# Altium schematic symbol library Schlib.SchLib: 138 symbols (part 3 of 4)
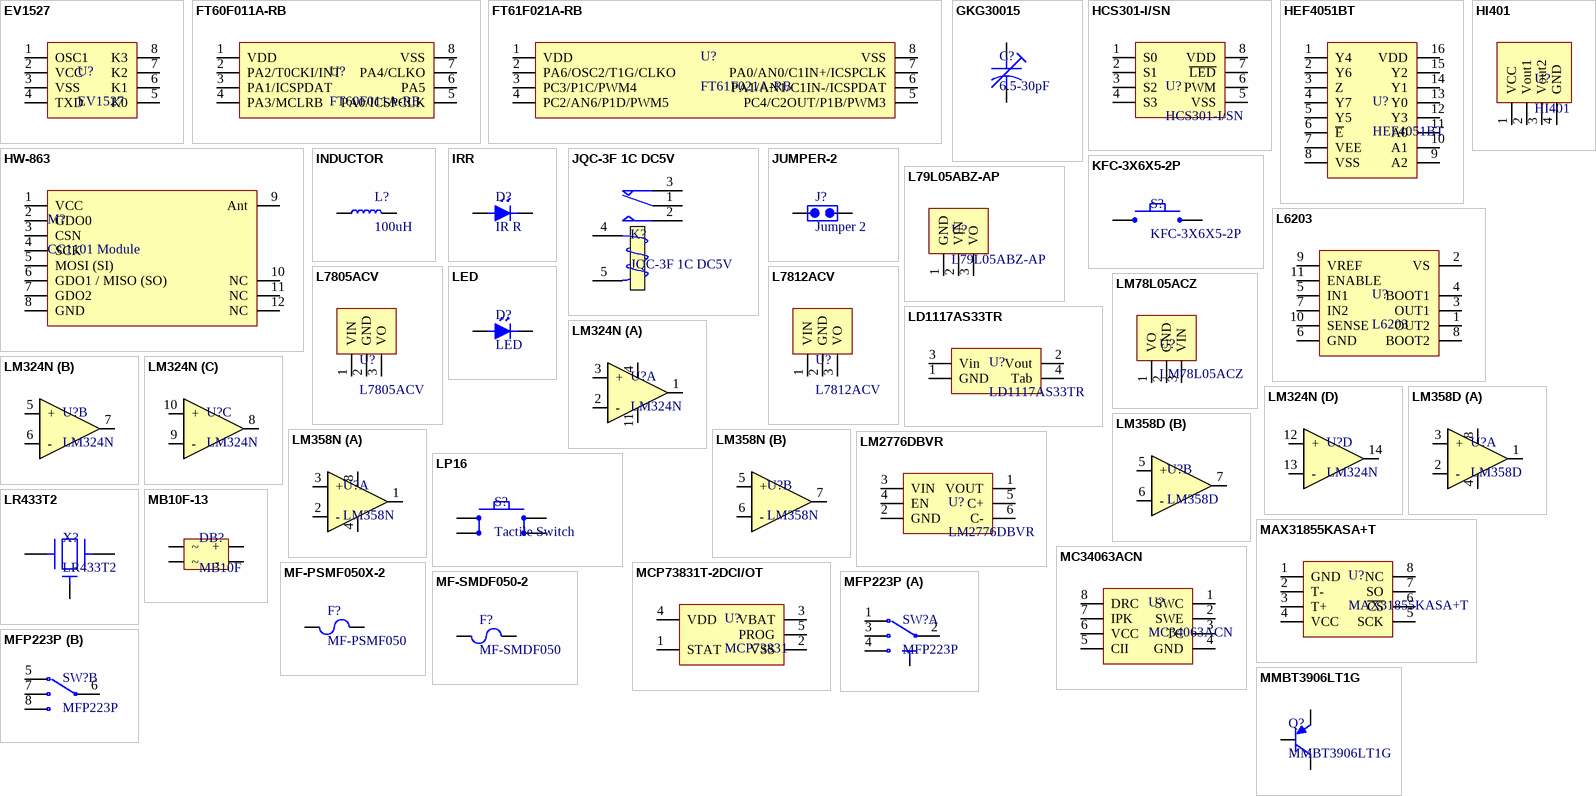
[diagram p5: symbols EV1527 to MMBT3906LT1G]

## MMBT3906LT1G
designator Q?
Transistor: PNP; bipolar; -40V; -0.2A; 300mW; -55+150 deg.C; SMD; SOT23;Code 2A; Manufacturer: onsemi; Manufacturer Lifecycle Status: ACTIVE; Collector Emitter Saturation Voltage: 400mV; Collector Emitter Voltage (VCEO): 40V; Current Rating: -200mA; Element Configuration: Single; Emitter Base Voltage (VEBO): -5V; Frequency: 250MHz; hFE Min: 30; Max Collector Current: 200mA; Max Junction Temperature (Tj): 150°C; Number of Elements: 1; Power Dissipation: 225mW; Supplier: Future Electronics; Supplier Part Number: 8052361; Manufacturer Part Number: MMBT3906LT1G; RoHS: Compliant; Category: BJTs; Stock: 4785000; Pricing: 3000=0/0123, 9000=0/0121, 30000=0/0118, 60000=0/0116, 120000=0/0113 (USD); Case/Package: SOT-23; China RoHS: Compliant; Collector Base Voltage (VCBO): -40V; Collector Emitter Breakdown Voltage: -40V; Contact Plating: Tin; Gain Bandwidth Product: 250MHz; Height: 1.11mm; Lead Free: Lead Free; Length: 2.9mm; Lifecycle Status: Production; Max Breakdown Voltage: 40V; Clock Frequency: 250MHz; Max Operating Temperature: 150°C; Max Power Dissipation: 300mW; Min Operating Temperature: -65°C; Pins: 3; Number of Terminals: 3; Packaging: Tape and Reel; Polarity: PNP; Radiation Hardening: No; REACH SVHC: Yes; Schedule B: 8541210080, 8541210080|8541210080|8541210080|8541210080|8541210080; Transition Frequency: 250MHz; Voltage Rating (DC): -40V; Width: 1.3mm; ComponentLink1URL: https://datasheet.octopart.com:443/MMBT3906LT1G-ON-Semiconductor-datasheet-8327872.pdf?src-supplier=onsemi; ComponentLink1Description: https://datasheet.octopart.com:443/MMBT3906LT1G-ON-Semiconductor-datasheet-8327872.pdf?src-supplier=onsemi; ComponentLink2URL: https://datasheet.octopart.com:443/MMBT3906LT1G-ON-Semiconductor-datasheet-539488.pdf?src-supplier=onsemi; ComponentLink2Description: https://datasheet.octopart.com:443/MMBT3906LT1G-ON-Semiconductor-datasheet-539488.pdf?src-supplier=onsemi; ComponentLink3URL: https://datasheet.octopart.com:443/MMBT3906LT1G-ON-Semiconductor-datasheet-138897290.pdf?src-supplier=onsemi; ComponentLink3Description: https://datasheet.octopart.com:443/MMBT3906LT1G-ON-Semiconductor-datasheet-138897290.pdf?src-supplier=onsemi; ComponentLink4URL: https://datasheet.octopart.com:443/MMBT3906LT1G-onsemi-datasheet-175423508.pdf?src-supplier=IHS; ComponentLink4Description: https://datasheet.octopart.com:443/MMBT3906LT1G-onsemi-datasheet-175423508.pdf?src-supplier=IHS; ComponentLink5URL: https://sigma.octopart.com:443/138897241/technical_drawing/ON-Semiconductor-MMBT3906LT1G.pdf?src-supplier=Upverter; ComponentLink5Description: https://sigma.octopart.com:443/138897241/technical_drawing/ON-Semiconductor-MMBT3906LT1G.pdf?src-supplier=Upverter; ComponentLink6URL: https://datasheet.octopart.com:443/MMBT3906LT1G-ON-Semiconductor-datasheet-37114213.pdf?src-supplier=RS+(Formerly+Allied+Electronics); ComponentLink6Description: https://datasheet.octopart.com:443/MMBT3906LT1G-ON-Semiconductor-datasheet-37114213.pdf?src-supplier=RS+(Formerly+Allied+Electronics); ComponentLink7URL: https://datasheet.octopart.com:443/MMBT3906LT1G-ON-Semiconductor-datasheet-11546804.pdf?src-supplier=Newark; ComponentLink7Description: https://datasheet.octopart.com:443/MMBT3906LT1G-ON-Semiconductor-datasheet-11546804.pdf?src-supplier=Newark; ComponentLink8URL: https://datasheet.octopart.com:443/MMBT3906LT1G-onsemi-datasheet-181959170.pdf?src-supplier=Newark; ComponentLink8Description: https://datasheet.octopart.com:443/MMBT3906LT1G-onsemi-datasheet-181959170.pdf?src-supplier=Newark; ComponentLink9URL: https://datasheet.octopart.com:443/MMBT3906LT1G-ON-Semiconductor-datasheet-14065217.pdf?src-supplier=iiiC; ComponentLink9Description: https://datasheet.octopart.com:443/MMBT3906LT1G-ON-Semiconductor-datasheet-14065217.pdf?src-supplier=iiiC; ComponentLink10URL: http://sigma.octopart.com:80/150618441/rohs_statement/ON-Semiconductor-MMBT3906LT1G.pdf?src-supplier=Compliance+Statements; ComponentLink10Description: http://sigma.octopart.com:80/150618441/rohs_statement/ON-Semiconductor-MMBT3906LT1G.pdf?src-supplier=Compliance+Statements; ComponentLink11URL: http://sigma.octopart.com:80/reach_statement/ON-Semiconductor-company-79.pdf?src-supplier=Compliance+Statements; ComponentLink11Description: http://sigma.octopart.com:80/reach_statement/ON-Semiconductor-company-79.pdf?src-supplier=Compliance+Statements; ComponentLink12URL: https://octopart.com:443/opatz8j6/c1?t=9sZx5J1Z-CKt1acIFvbxwnPOfg2Ox1ThGsk5u_ey9klsd4kIY_YRtngdpTUgHhn1pW7VsXVWW69Sw7HMwhsWnnweoFVJiE2XtkL4qFc8EmcrHL8FnuEaZITAA2BVwuye8rlv93o6QoBnrxCnDqBwoJSQLZ7qmkUWbwzZL1o6NcW86JGkywe1WBKx4i8oYYl6fWP6UJe0luWDwoUFZ5aEpytWvdy15qGS5MPbd-v5mWL7syfpciumexnUjefqPdtET68dcoFzHd7o-X17DsKWIKOzlWoEX1N8sQ_gkn8M4_GdX4eK4BaTWebEcksB-cGbWTlBKm0ovGpmSXP-3wSY9RoNaC-NjL5hUsizKSmw&src-supplier=Compliance+Statements; ComponentLink12Description: https://octopart.com:443/opatz8j6/c1?t=9sZx5J1Z-CKt1acIFvbxwnPOfg2Ox1ThGsk5u_ey9klsd4kIY_YRtngdpTUgHhn1pW7VsXVWW69Sw7HMwhsWnnweoFVJiE2XtkL4qFc8EmcrHL8FnuEaZITAA2BVwuye8rlv93o6QoBnrxCnDqBwoJSQLZ7qmkUWbwzZL1o6NcW86JGkywe1WBKx4i8oYYl6fWP6UJe0luWDwoUFZ5aEpytWvdy15qGS5MPbd-v5mWL7syfpciumexnUjefqPdtET68dcoFzHd7o-X17DsKWIKOzlWoEX1N8sQ_gkn8M4_GdX4eK4BaTWebEcksB-cGbWTlBKm0ovGpmSXP-3wSY9RoNaC-NjL5hUsizKSmw&src-supplier=Compliance+Statements; ComponentLink13URL: https://octopart.com:443/opatz8j6/c1?t=GA0nTvQ7vxStTNIUtkSWbw7XWK-Mpf3oWN0e4r5Gu_q5LpJd643bQeZmPkgPRwvKtShqrBLuJiAtGA0MkHCg0iOO_WYcl_xbcwBqU1bQb0lvXexGzyXRH23qH_MQ5dKNkvqU-Gn8y9RRpAdHGn4Eg_WSyAPYm7DUsIMBrm7SRPFY-f0RRQP4U88wsrb3LTv7fPMpL3NiEwyRxkLVG4u0uW8oCoTQq4D3crnjIjmlng4hdwwueZUiwYEwf-joQKRwrmYf5NkpPGeMmt7uaSqBY3_8dxI35T2xesQrsayqgFWMMrS6eBw6IWFkd9gFe00eLOkhwG9vcC34nM7lUgwiqCpZZ1wR8zkpqajjdwja7Q&src-supplier=Compliance+Statements; ComponentLink13Description: https://octopart.com:443/opatz8j6/c1?t=GA0nTvQ7vxStTNIUtkSWbw7XWK-Mpf3oWN0e4r5Gu_q5LpJd643bQeZmPkgPRwvKtShqrBLuJiAtGA0MkHCg0iOO_WYcl_xbcwBqU1bQb0lvXexGzyXRH23qH_MQ5dKNkvqU-Gn8y9RRpAdHGn4Eg_WSyAPYm7DUsIMBrm7SRPFY-f0RRQP4U88wsrb3LTv7fPMpL3NiEwyRxkLVG4u0uW8oCoTQq4D3crnjIjmlng4hdwwueZUiwYEwf-joQKRwrmYf5NkpPGeMmt7uaSqBY3_8dxI35T2xesQrsayqgFWMMrS6eBw6IWFkd9gFe00eLOkhwG9vcC34nM7lUgwiqCpZZ1wR8zkpqajjdwja7Q&src-supplier=Compliance+Statements; ComponentLink14URL: https://octopart.com:443/opatz8j6/c1?t=sB9k2lPQEe2PDVP0-2PDxDAGSHvdI0xHl-BGdaJRYUfgqzTGWTL7dqAw6saP2XegEO4FIcBeIoqAvTlo8KPiG9x2qAhRzQTA9bAA7iJrQU1c7eL_FnHayRa2otw4hEqpJPphi7sM-yTD6GgWoRS-efhsHY-rwujiF4GadOBKLlVxEeNROAOLFYlw0oMOc5AZAW_Z0tKLuXjrCsD4R_RPK5_j87n7vgxugC2rzFe2O4N72g38C5dBLcEfkBcqiFc_7A1DiEw9qc8FJ4UfRYEiHwZlKjD-tNq8eo_oGy73AD2bGZ0pFXPK7GcLVN9cOkQZa43ouWD3JlCIQGPBAIMTfVBmTbTW6XLOfjca1ldA&src-supplier=Compliance+Statements; ComponentLink14Description: https://octopart.com:443/opatz8j6/c1?t=sB9k2lPQEe2PDVP0-2PDxDAGSHvdI0xHl-BGdaJRYUfgqzTGWTL7dqAw6saP2XegEO4FIcBeIoqAvTlo8KPiG9x2qAhRzQTA9bAA7iJrQU1c7eL_FnHayRa2otw4hEqpJPphi7sM-yTD6GgWoRS-efhsHY-rwujiF4GadOBKLlVxEeNROAOLFYlw0oMOc5AZAW_Z0tKLuXjrCsD4R_RPK5_j87n7vgxugC2rzFe2O4N72g38C5dBLcEfkBcqiFc_7A1DiEw9qc8FJ4UfRYEiHwZlKjD-tNq8eo_oGy73AD2bGZ0pFXPK7GcLVN9cOkQZa43ouWD3JlCIQGPBAIMTfVBmTbTW6XLOfjca1ldA&src-supplier=Compliance+Statements
footprint SOT-23-3
pins: 1 B, 2 E, 3 C

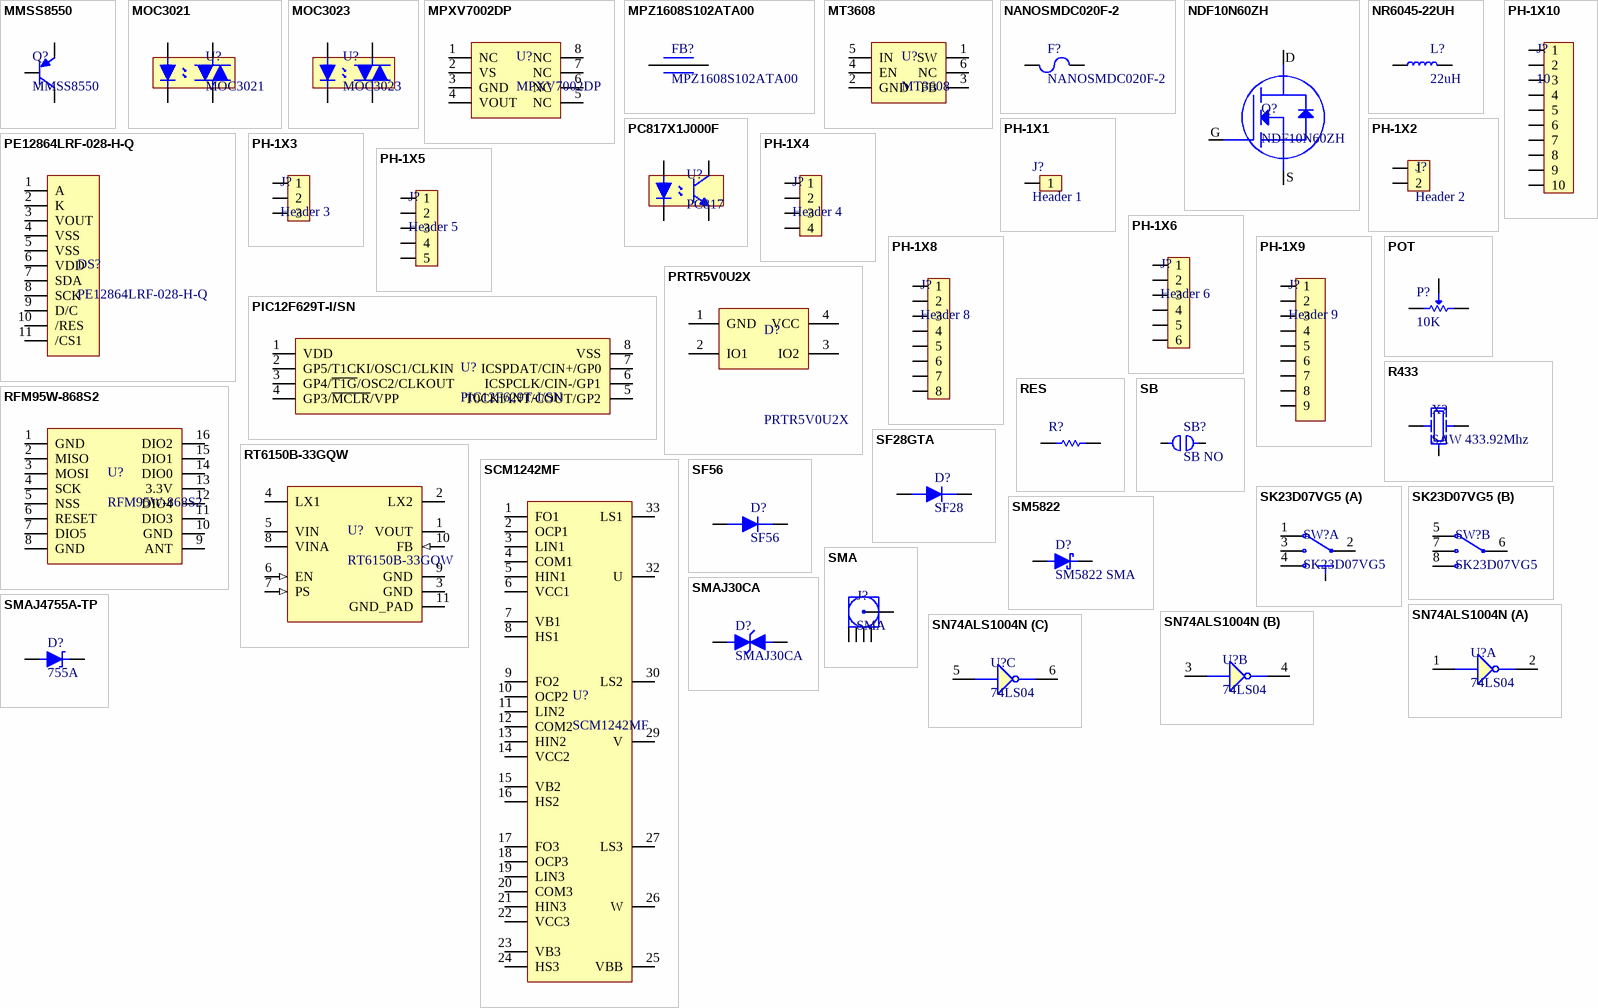
[diagram p2: symbols MMSS8550 to SN74ALS1004N]

## MMSS8550
designator Q?
PNP 25V 1.5A BJT Y2
footprint SOT-23-3
pins: 1 B, 2 E, 3 C

## MOC3021
designator U?
OPTOISOLATOR 5KV TRIAC 6DIP; Manufacturer: Vishay Lite-On; Number of Channels: 1; Forward Voltage: 1.15V; Hold Current: 250uA; Forward Current: 50mA; Max Input Voltage: 1.5V; Reverse Breakdown Voltage: 6V; Power Dissipation: 330mW; Output Voltage: 400V; Turn-On Delay Time: 20us; Max Output Current: 100mA; Approvals: UL,CSA,VDE,TUV,CQC; Supplier 1: Mouser; Manufacturer Part Number: MOC3021; RoHS: Yes; Category: Optocouplers; Stock 1: 9689; Pricing 1: 1=0/54000, 10=0/35800, 50=0/35800, 100=0/23600, 1000=0/23600, 1040=0/18200, 2535=0/16400, 10000=0/16400, 10010=0/14800, 25025=0/14600, 50050=0/14000 (USD); Mount: Through Hole; Case/Package: DIP; Number of Pins: 6; Min Operating Temperature: -40°C; Max Operating Temperature: 100°C; Packaging: Rail/Tube; Nominal Input Voltage: 1.15V; Isolation Voltage: 5kV; Number of Elements: 1; Max Input Current: 50mA; Max Power Dissipation: 330mW; Number of Circuits: 1; Series: -; Radiation Hardening: No; RoHS Compliant: Yes; ComponentLink1URL: https://datasheet.ciiva.com/11771/0900766b80de6ded-11771920.pdf?src-supplier=RSComponents; ComponentLink1Description: https://datasheet.ciiva.com/11771/0900766b80de6ded-11771920.pdf?src-supplier=RSComponents; ComponentLink2URL: https://datasheet.ciiva.com/25779/0900766b80de6ded-25779931.pdf?src-supplier=Allied+Electronics; ComponentLink2Description: https://datasheet.ciiva.com/25779/0900766b80de6ded-25779931.pdf?src-supplier=Allied+Electronics; ComponentLink3URL: https://datasheet.ciiva.com/2093/s-110-moc3020thrumoc3023series-2093012.pdf?src-supplier=Digi-Key; ComponentLink3Description: https://datasheet.ciiva.com/2093/s-110-moc3020thrumoc3023series-2093012.pdf?src-supplier=Digi-Key; Supplier Part Number 1: 859-MOC3021
footprint DIP-6 (DIP, pitch 2.54mm, 300mil Width)
pins: 1, 2, 4, 6

## MOC3023
designator U?
OPTOISOLATOR 5KV TRIAC 6DIP; Manufacturer: Vishay Lite-On; Number of Channels: 1; Forward Current: 50mA; Forward Voltage: 1.15V; Reverse Breakdown Voltage: 6V; Max Input Voltage: 1.5V; Power Dissipation: 330mW; Hold Current: 250uA; Output Voltage: 400V; Turn-On Delay Time: 20us; Max Output Current: 100mA; Approvals: UL,CSA,VDE,TUV,CQC; Supplier 1: Mouser; Manufacturer Part Number: MOC3023; RoHS: Yes; Category: Optocouplers; Stock 1: 4628; Pricing 1: 1=0/59000, 10=0/39100, 50=0/39100, 100=0/25700, 1000=0/25700, 10000=0/17900 (USD); Mount: Through Hole; Case/Package: DIP; Number of Pins: 6; Min Operating Temperature: -40°C; Max Operating Temperature: 100°C; Packaging: Rail/Tube; Nominal Input Voltage: 1.15V; Isolation Voltage: 5kV; Number of Elements: 1; Max Power Dissipation: 330mW; Max Input Current: 50mA; Number of Circuits: 1; Series: -; Isolation Voltage-Max: 5kV; Max Output Voltage: 400V; Radiation Hardening: No; Lead Free: Lead Free; RoHS Compliant: Yes; ComponentLink1URL: https://datasheet.ciiva.com/25620/0900766b80de6ded-25620601.pdf?src-supplier=RSComponents; ComponentLink1Description: https://datasheet.ciiva.com/25620/0900766b80de6ded-25620601.pdf?src-supplier=RSComponents; ComponentLink2URL: https://datasheet.ciiva.com/2093/s-110-moc3020thrumoc3023series-2093014.pdf?src-supplier=Digi-Key; ComponentLink2Description: https://datasheet.ciiva.com/2093/s-110-moc3020thrumoc3023series-2093014.pdf?src-supplier=Digi-Key; Supplier Part Number 1: 859-MOC3023
footprint DIP-6 (DIP, pitch 2.54mm, 300mil Width)
pins: 1, 2, 4, 6

## MPXV7002DP
designator U?
NXP,MPXV7002DP             Pressure Sensor, Differential, 1 V/kPa, -2 kPa, 2 kPa, 4.75 V, 5.25 V; Manufacturer: NXP Freescale; Output Voltage: 4.5V; Operating Supply Voltage: 5V; Nominal Supply Current: 10mA; Min Supply Voltage: 4.75V; Max Supply Voltage: 5.25V; Port Style: Barbed; Operating Pressure: 0.29PSI; Accuracy: 2.5%; Max Pressure: 10.88PSI; Output Type: Analog Voltage,Analog; Response Time: 1ms; Supplier 1: Digi-Key; Manufacturer Part Number: MPXV7002DP; RoHS: Yes; Category: Pressure Sensors; Pricing 1: 1=20.87000 (USD); Mount: Surface Mount; Case/Package: SMD/SMT; Number of Pins: 8; Weight: 0.07841oz; Min Operating Temperature: 10°C; Max Operating Temperature: 60°C; Package Quantity: 125; Packaging: Tray; Termination: PCB; Pressure Type: Differential; Max Supply Current: 10mA; Radiation Hardening: No; REACH SVHC: No SVHC; Lead Free: Lead Free; Halogen Free: Not Halogen Free; RoHS Compliant: Yes; ComponentLink1URL: https://datasheet.ciiva.com/15099/getdatasheetpartid-189560-15099192.pdf?src-supplier=Verical; ComponentLink1Description: https://datasheet.ciiva.com/15099/getdatasheetpartid-189560-15099192.pdf?src-supplier=Verical; ComponentLink2URL: https://datasheet.ciiva.com/27051/1094061-27051403.pdf?src-supplier=Jameco; ComponentLink2Description: https://datasheet.ciiva.com/27051/1094061-27051403.pdf?src-supplier=Jameco; ComponentLink3URL: https://datasheet.ciiva.com/1167/1718766-1167544.pdf?src-supplier=Element14; ComponentLink3Description: https://datasheet.ciiva.com/1167/1718766-1167544.pdf?src-supplier=Element14; ComponentLink4URL: https://datasheet.ciiva.com/5297/mpxv7002-5297645.pdf?src-supplier=Mouser; ComponentLink4Description: https://datasheet.ciiva.com/5297/mpxv7002-5297645.pdf?src-supplier=Mouser; ComponentLink5URL: https://datasheet.ciiva.com/3272/mpxv7002-3272584.pdf?src-supplier=Avnet; ComponentLink5Description: https://datasheet.ciiva.com/3272/mpxv7002-3272584.pdf?src-supplier=Avnet; ComponentLink6URL: https://datasheet.ciiva.com/16354/mpxv7002-16354119.pdf?src-supplier=Future+Electronics; ComponentLink6Description: https://datasheet.ciiva.com/16354/mpxv7002-16354119.pdf?src-supplier=Future+Electronics; ComponentLink7URL: https://datasheet.ciiva.com/26022/mpxv7002-26022710.pdf?src-supplier=Avnet+Europe; ComponentLink7Description: https://datasheet.ciiva.com/26022/mpxv7002-26022710.pdf?src-supplier=Avnet+Europe; ComponentLink8URL: https://datasheet.ciiva.com/2825/mpxv7002-2825384.pdf?src-supplier=Digi-Key; ComponentLink8Description: https://datasheet.ciiva.com/2825/mpxv7002-2825384.pdf?src-supplier=Digi-Key; Supplier Part Number 1: MPXV7002DP-ND
footprint MPXV7002DP
pins: 1 NC, 2 VS, 3 GND, 4 VOUT, 5 NC, 6 NC, 7 NC, 8 NC

## MPZ1608S102ATA00
designator FB?
FERRITE BEAD 1 KOHM 0603 1LN; Manufacturer: TDK; Tolerance: 25%; Impedance: 1kR; DC Resistance (DCR): 300mR; Max DC Current: 800mA; Supplier 1: Digi-Key; Manufacturer Part Number: MPZ1608S102ATA00; RoHS: Yes; Category: Inductors; Pricing 1: 1=0/10000, 10=0/07900, 25=0/07160, 50=0/06440, 100=0/04720, 250=0/03432, 500=0/03146, 1000=0/02717 (USD); Mount: Surface Mount; Case/Package: 0603; Core Material: Ferrite; Case Code (Metric): 1608; Case Code (Imperial): 0603; Package Quantity: 4000; Packaging: Tape and Reel; Current Rating: 800mA; Length: 0.063inch; Width: 0.031inch; Height: 0.037inch; RoHS Compliant: Yes; ComponentLink1URL: https://datasheet.ciiva.com/48682/beads-commercial-power-mpz-en-48682493.pdf?src-supplier=Avnet; ComponentLink1Description: https://datasheet.ciiva.com/48682/beads-commercial-power-mpz-en-48682493.pdf?src-supplier=Avnet; ComponentLink2URL: https://datasheet.ciiva.com/46634/beads-commercial-power-mpz-en-46634470.pdf?src-supplier=Digi-Key; ComponentLink2Description: https://datasheet.ciiva.com/46634/beads-commercial-power-mpz-en-46634470.pdf?src-supplier=Digi-Key; Supplier Part Number 1: 445-8694-1-ND
footprint MPZ1608_0.8
pins: 1, 2

## MT3608
designator U?
Switching Voltage Step Up Converter Regulators
footprint SOT-23-6-(SC-74)
pins: 1 SW, 2 GND, 3 FB, 4 EN, 5 IN, 6 NC

## NANOSMDC020F-2
designator F?
PTC Resettable Fuse 0.2A(hold) 0.42A(trip) 24VDC 100A 0.6W 0.1s 0.65Ohm SMD Solder Pad 1206 T/R; Manufacturer: Littelfuse; Operating Supply Voltage: 24V; Power Dissipation: 600mW; Supplier 1: Digikey; Manufacturer Part Number: NANOSMDC020F-2; RoHS: Yes; Category: PTC Resettable Fuses; Stock 1: 27852; Pricing 1: 1=0/44, 5=0/432, 10=0/418, 50=0/3516, 100=0/292, 250=0/26544, 500=0/22562, 1000=0/19907 (USD); Case/Package: 340Case; Current Rating: 100A; Voltage Rating: 24V; Width: 3.4mm; Height: 820um; ComponentLink1URL: http://www.farnell.com/datasheets/2282569.pdf?src-supplier=Farnell; ComponentLink1Description: http://www.farnell.com/datasheets/2282569.pdf?src-supplier=Farnell; ComponentLink2URL: https://datasheet.octopart.com/NANOSMDC020F-2-Littelfuse-datasheet-67462058.pdf?src-supplier=Future+Electronics; ComponentLink2Description: https://datasheet.octopart.com/NANOSMDC020F-2-Littelfuse-datasheet-67462058.pdf?src-supplier=Future+Electronics; ComponentLink3URL: https://www.littelfuse.com/~/media/electronics/product_specifications/resettable_ptcs/littelfuse_ptc_nanosmdc020f_2_product_specification.pdf.pdf?src-supplier=Digikey; ComponentLink3Description: https://www.littelfuse.com/~/media/electronics/product_specifications/resettable_ptcs/littelfuse_ptc_nanosmdc020f_2_product_specification.pdf.pdf?src-supplier=Digikey; ComponentLink4URL: https://www.littelfuse.com/~/media/electronics/datasheets/resettable_ptcs/littelfuse_ptc_nanosmd_catalog_datasheet.pdf.pdf?src-supplier=Digikey; ComponentLink4Description: https://www.littelfuse.com/~/media/electronics/datasheets/resettable_ptcs/littelfuse_ptc_nanosmd_catalog_datasheet.pdf.pdf?src-supplier=Digikey; ComponentLink5URL: http://www.littelfuse.com/~/media/electronics/datasheets/resettable_ptcs/littelfuse_ptc_nanosmd_catalog_datasheet.pdf.pdf?src-supplier=Digikey; ComponentLink5Description: http://www.littelfuse.com/~/media/electronics/datasheets/resettable_ptcs/littelfuse_ptc_nanosmd_catalog_datasheet.pdf.pdf?src-supplier=Digikey; ComponentLink6URL: http://www.farnell.com/datasheets/2282569.pdf?src-supplier=Newark; ComponentLink6Description: http://www.farnell.com/datasheets/2282569.pdf?src-supplier=Newark; ComponentLink7URL: http://www.farnell.com/datasheets/2282569.pdf?src-supplier=Element14; ComponentLink7Description: http://www.farnell.com/datasheets/2282569.pdf?src-supplier=Element14; ComponentLink8URL: http://www.farnell.com/cad/1650134.pdf?src-supplier=Element14; ComponentLink8Description: http://www.farnell.com/cad/1650134.pdf?src-supplier=Element14; ComponentLink9URL: http://www.farnell.com/datasheets/1468628.pdf?src-supplier=Element14; ComponentLink9Description: http://www.farnell.com/datasheets/1468628.pdf?src-supplier=Element14; Supplier Part Number 1: NANOSMDC020F-2CT-ND
footprint R-1206
pins: 1, 2

## NDF10N60ZH
designator Q?
NDF10N60ZH N-channel MOSFET Transistor; 10 A; 600 V; 3-Pin TO-220FP; Manufacturer: ON Semiconductor; Rise Time: 31ns; Rds On Max: 750mR; Input Capacitance: 1.645nF; Drain to Source Voltage (Vdss): 600V; Continuous Drain Current (ID): 10A; Max Power Dissipation: 39W; Fall Time: 23ns; Gate to Source Voltage (Vgs): 30V; Drain to Source Resistance: 650mR; Turn-On Delay Time: 15ns; Turn-Off Delay Time: 40ns; Number of Elements: 1; Element Configuration: Single; Supplier 1: Farnell; Manufacturer Part Number: NDF10N60ZH; RoHS: Yes; Category: MOSFETs; Pricing 1: 5=0/87800, 25=0/79700, 100=0/62600, 250=0/58500, 500=0/54200, 1000=0/43500, 5000=0/42400 (GBP); Case/Package: TO-220-3; Number of Pins: 3; Min Operating Temperature: -55°C; Max Operating Temperature: 150°C; Package Quantity: 50; Packaging: Rail/Tube; Drain to Source Breakdown Voltage: 600V; Power Dissipation: 39W; Polarity: N-CHANNEL; Series: -; Length: 10.63mm; Width: 4.9mm; Height: 16.12mm; Radiation Hardening: No; Lead Free: Lead Free; RoHS Compliant: Yes; ComponentLink1URL: https://datasheet.ciiva.com/6374/ndf10n60z-d-6374054.pdf?src-supplier=Digi-Key; ComponentLink1Description: https://datasheet.ciiva.com/6374/ndf10n60z-d-6374054.pdf?src-supplier=Digi-Key; Supplier Part Number 1: 2724446
footprint TO-220
pins: 1 G, 2 D, 3 S

## NR6045-22UH
designator L?, comment 22uH
Low Profile, High Current IHLP Inductor, 2.3A, 22uH, SMD(6x6x3), (HPC6045NV-220); Brand: Tai-Tech Advanced Electronics
footprint NR6045
pins: 1, 2

## PC817X1J000F
designator U?, comment PC817
Optocoupler DC-IN 1-CH Transistor DC-OUT 4-Pin PDIP Sleeve; Manufacturer: Sharp; Manufacturer Part Number: PC817X1J000F; Forward Voltage: 1.4V; Reverse Breakdown Voltage: 6V; Rise Time: 18000ns; Forward Current: 50mA; Collector Emitter Voltage (VCEO): 80V; Collector Emitter Saturation Voltage: 200mV; Number of Elements: 1; Power Dissipation: 200mW; Input Type: DC; Isolation Voltage: 5kV; Input Current: 20mA; Current Transfer Ratio: 600%; Supplier 1: Farnell; RoHS: Yes; Category: Optocouplers; Pricing 1: 1=0/80000, 25=0/43000, 100=0/29000, 250=0/24600, 500=0/20500, 1000=0/18500, 3000=0/16600, 10000=0/14900 (GBP); Mount: Through Hole; Case/Package: DIP; Number of Pins: 4; Min Operating Temperature: -30°C; Max Operating Temperature: 100°C; Fall Time: 18000ns; Packaging: Sleeve; Max Power Dissipation: 200mW; Number of Channels: 1; Package Quantity: 2000; Output Current per Channel: 50mA; Max Collector Current: 50mA; Max Input Current: 50mA; Collector-emitter Voltage-Max: 200mV; Output Voltage: 80V; Collector Emitter Breakdown Voltage: 80V; Radiation Hardening: No; RoHS Compliant: Yes; REACH SVHC: Unknown; ComponentLink1URL: https://datasheet.ciiva.com/15118/getdatasheetpartid-51013-15118433.pdf?src-supplier=Verical; ComponentLink1Description: https://datasheet.ciiva.com/15118/getdatasheetpartid-51013-15118433.pdf?src-supplier=Verical; ComponentLink2URL: https://datasheet.ciiva.com/8098/pc817x-ej-8098850.pdf?src-supplier=Avnet; ComponentLink2Description: https://datasheet.ciiva.com/8098/pc817x-ej-8098850.pdf?src-supplier=Avnet; ComponentLink3URL: https://datasheet.ciiva.com/6946/73758-6946101.pdf?src-supplier=Newark; ComponentLink3Description: https://datasheet.ciiva.com/6946/73758-6946101.pdf?src-supplier=Newark; ComponentLink4URL: https://datasheet.ciiva.com/8068/1695399-8068005.pdf?src-supplier=Element14; ComponentLink4Description: https://datasheet.ciiva.com/8068/1695399-8068005.pdf?src-supplier=Element14; ComponentLink5URL: https://datasheet.ciiva.com/2092/pc817x-ej-2092617.pdf?src-supplier=Digi-Key; ComponentLink5Description: https://datasheet.ciiva.com/2092/pc817x-ej-2092617.pdf?src-supplier=Digi-Key; Supplier Part Number 1: 9707697
footprint DIP-4 (DIP, pitch 2.54mm, 300mil Width)
pins: 1 A, 2 C, 3 E, 4 C

## PE12864LRF-028-H-Q
designator DS?
128X64 Custom LCD , 11Pin Flat ,POWERTIP TECH. CORP.
footprint PE12864LRF-028-H-Q
footprint PE12864LRF-028-H-Q_S
pins: 1 A, 2 K, 3 VOUT, 4 VSS, 5 VSS, 6 VDD, 7 SDA, 8 SCK, 9 D/C, 10 /RES, 11 /CS1

## PH-1X1
designator J?, comment Header 1
PIN HEADER 1x1 2.56mm
footprint PH-1X1 (2.54mm)
footprint PH-1X1-N3D (2.54mm)
pins: 1

## PH-1X2
designator J?, comment Header 2
PIN HEADER 1x2 2.56mm
footprint PH-1X2 (2.54mm)
footprint PH-1X2-N3D (2.54mm)
footprint PH-1X2-CON (2.54mm)
pins: 1, 2

## PH-1X3
designator J?, comment Header 3
PIN HEADER 1x3 2.56mm
footprint PH-1X3 (2.54mm)
pins: 1, 2, 3

## PH-1X4
designator J?, comment Header 4
PIN HEADER 1x4 2.56mm
footprint PH-1X4 (2.54mm)
footprint PH-1X4-SMALL (1.27mm)
pins: 1, 2, 3, 4

## PH-1X5
designator J?, comment Header 5
PIN HEADER 1x5 2.56mm
footprint PH-1X5 (2.54mm)
pins: 1, 2, 3, 4, 5

## PH-1X6
designator J?, comment Header 6
PIN HEADER 1x6 2.56mm
footprint PH-1X6 (2.54mm)
pins: 1, 2, 3, 4, 5, 6

## PH-1X8
designator J?, comment Header 8
PIN HEADER 1x8 2.56mm
footprint PH-1X8 (2.54mm)
pins: 1, 2, 3, 4, 5, 6, 7, 8

## PH-1X9
designator J?, comment Header 9
PIN HEADER 1x9 2.56mm
footprint PH-1X9 (2.54mm)
pins: 1, 2, 3, 4, 5, 6, 7, 8, 9

## PH-1X10
designator J?, comment 10
PIN HEADER 1x10 2.56mm
footprint PH-1X10 (2.54mm)
pins: 1, 2, 3, 4, 5, 6, 7, 8, 9, 10

## PIC12F629T-I/SN
designator U?
MCU 8-bit PIC12 PIC RISC 1.75KB Flash 2.5V/3.3V/5V 8-Pin SOIC N T/R; Manufacturer: Microchip; RAM Size: 64B; Max Power Dissipation: 800mW; Number of I/Os: 6; Number of Timers/Counters: 2; Frequency: 20MHz; Max Supply Voltage: 5.5V; Min Supply Voltage: 2V; Interface: RS-232,USB; Number of UART Channels: 0; Oscillator Type: Internal; Data Bus Width: 8b; Number of Bits: 8; Watchdog Timer: Yes; Nominal Supply Current: 175uA; Access Time: 20us; Peripherals: POR,WDT; Supplier 1: Allied Electronics; Manufacturer Part Number: PIC12F629T-I/SN; RoHS: Yes; Category: Microcontrollers; Pricing 1: 3300=1/42000, 165000=1/41000 (USD); Mount: Surface Mount; Case/Package: SOIC; Number of Pins: 8; Contact Plating: Tin,Matte; Min Operating Temperature: -40°C; Max Operating Temperature: 85°C; Packaging: Tape and Reel; Package Quantity: 3300; Number of Programmable I/O: 6; Max Frequency: 20MHz; Address Bus Width: 8b; Memory Type: FLASH; Memory Size: 1.75KB; Core Architecture: PIC; Number of A/D Converters: 0; Series: PIC® 12F; Supply Current: 175uA; Length: 4.9mm; Width: 3.9mm; Height: 1.5mm; Radiation Hardening: No; REACH SVHC: No SVHC; Lead Free: Lead Free; RoHS Compliant: Yes; ComponentLink1URL: https://datasheet.ciiva.com/3205/41190g-3205376.pdf?src-supplier=Avnet; ComponentLink1Description: https://datasheet.ciiva.com/3205/41190g-3205376.pdf?src-supplier=Avnet; ComponentLink2URL: https://datasheet.ciiva.com/46393/724670-46393031.pdf?src-supplier=Element14; ComponentLink2Description: https://datasheet.ciiva.com/46393/724670-46393031.pdf?src-supplier=Element14; ComponentLink3URL: https://datasheet.ciiva.com/1487/41190g-1487171.pdf?src-supplier=Digi-Key; ComponentLink3Description: https://datasheet.ciiva.com/1487/41190g-1487171.pdf?src-supplier=Digi-Key; ComponentLink4URL: https://datasheet.ciiva.com/16449/filehandler-aspxddocname-en011653-16449565.pdf?src-supplier=Future+Electronics; ComponentLink4Description: https://datasheet.ciiva.com/16449/filehandler-aspxddocname-en011653-16449565.pdf?src-supplier=Future+Electronics; Supplier Part Number 1: 70047005
footprint SOIC-8
pins: 1 VDD, 2 GP5/T1CKI/OSC1/CLKIN, 3 GP4/~{T1G}/OSC2/CLKOUT, 4 GP3/~{MCLR}/VPP, 5 T0CKI/INT/COUT/GP2, 6 ICSPCLK/CIN-/GP1, 7 ICSPDAT/CIN+/GP0, 8 VSS

## POT
designator P?, comment 10K
RESISTOR
footprint POT_7X5 (POT, TRIM, 7.5X5.0mm, pitch: 5.0mm)
footprint POT-V
pins: 1, 2, 3

## PRTR5V0U2X
designator D?
Ultra low capacitance double rail-to-rail ESD protection diode; Manufacturer: NXP; Part number IPS: 00000009951; Artikkelnr Noca: 10069015; Part Number: PRTR5V0U2X; Manufacturer Part Number: PRTR5V0U2X; LatestRevisionDate: 2017-11-09; Publisher: Nordic Semiconductor; Published: 2012-06-11; Value: PRTR5V0U2X; Note: *; Footprint Doc: SOT-143B; ComponentLink1Description: Datasheet; ComponentLink1URL: *; ComponentLink2Description: Supplier link; ComponentLink2URL: *; HelpURL: http://www.farnell.com/datasheets/109718.pdf; Pin Count: 4; Supplier 1: Digi-Key; Supplier Part Number 1: 568-4140-1-ND; Supplier 2: Farnell; Supplier Part Number 2: 152-4157
footprint SOT190P230X110-4L
pins: 1 GND, 2 IO1, 3 IO2, 4 VCC

## R433
designator X?, comment SAW 433.92Mhz
433.92MHZ One-port SAW Resonator For Wireless Remote Controller
footprint TO-39
pins: 1, 2, 3

## RES
designator R?
footprint R-1/4W-DIP
footprint R-1206
footprint R-1/4W-DIP-Blue
footprint R-1/2W-DIP
footprint R-0805-W
footprint R-0603-R
footprint R-0603-W
footprint R-0805
footprint R-0805-R
footprint R-0603
pins: 1, 2

## RFM95W-868S2
designator U?
Transceiver RF 868 MHz (+20/-139dBm), FSK, GFSK, MSK, GMSK, LoRaTM, OOK, 16 x 16 mm; Manufacturer: RF Solutions; Interface: SPI; Frequency: 868MHz; Data Rate: 300Kbps; Sensitivity: -123dBm; Current - Receiving: 12.1mA; Current - Transmitting: 120mA; Supplier 1: Mouser; Manufacturer Part Number: RFM95W-868S2; RoHS: Yes; Category: RF Receivers, Transceivers; Stock 1: 200; Pricing 1: 1=22/49, 10=20/77, 50=18/46, 100=17/59, 1000=15/57, 10000=15/57 (USD); Mount: Surface Mount; Case/Package: SMD/SMT; Min Operating Temperature: -20°C; Max Operating Temperature: 70°C; Packaging: Bulk; ComponentLink1URL: https://www.rfsolutions.co.uk/downloads/1463993415RFM95_96_97_98W.pdf?src-supplier=Digikey; ComponentLink1Description: https://www.rfsolutions.co.uk/downloads/1463993415RFM95_96_97_98W.pdf?src-supplier=Digikey; Supplier Part Number 1: 223-RFM95W-868S2
footprint RFM95
pins: 1 GND, 2 MISO, 3 MOSI, 4 SCK, 5 NSS, 6 RESET, 7 DIO5, 8 GND, 9 ANT, 10 GND, 11 DIO3, 12 DIO4, 13 3.3V, 14 DIO0, 15 DIO1, 16 DIO2

## RT6150B-33GQW
designator U?
IC Reg Bck Bst 3.3V 800MA 10WDFN; Manufacturer: Richtek; Topology: Buck-Boost; Output Type: Fixed; Output Configuration: Positive; Number of Outputs: 1; Min Input Voltage: 1.8V; Max Input Voltage: 5.5V; Switching Frequency: 1MHz; Synchronous Rectifier: Yes; Supplier 1: Digi-Key; Manufacturer Part Number: RT6150B-33GQW; RoHS: Yes; Category: Voltage Regulators - Switching; Pricing 1: 1=2/06000, 10=1/85100, 25=1/74640, 100=1/48790, 250=1/39708, 500=1/22244 (USD); Mount: Surface Mount; Min Operating Temperature: -40°C; Max Operating Temperature: 85°C; Packaging: Tape and Reel; Min Output Voltage: 3.3V; Output Current: 800mA; RoHS Compliant: Yes; ComponentLink1URL: https://www.richtek.com/assets/product_file/RT6150A=RT6150B/DS6150AB-05.pdf?src-supplier=Digi-Key; ComponentLink1Description: https://www.richtek.com/assets/product_file/RT6150A=RT6150B/DS6150AB-05.pdf?src-supplier=Digi-Key; Supplier Part Number 1: RT6150B-33GQWCT-ND
footprint DFN-10_2.5x2.5
pins: 1 VOUT, 2 LX2, 3 GND, 4 LX1, 5 VIN, 6 EN (in), 7 PS (in), 8 VINA, 9 GND, 10 FB (in), 11 GND_PAD

## SB
designator SB?, comment SB NO  (no BOM)
SOLDER BRIDGE NORMAL OPEN
footprint SB (SOLDER BRIDGE NO)
pins: 1, 2

## SCM1242MF
designator U?
Triple Half Bridge Motor Driver 300V 33-Pin DIP; Manufacturer: Allegro MicroSystems Sanken; Supplier 1: Digi-Key; Manufacturer Part Number: SCM1242MF; RoHS: Yes; Pricing 1: 250=16/44592 (USD); RoHS Compliant: Yes; Supplier Part Number 1: 1261-SCM1242MF-ND
footprint 2552
pins: 1 FO1, 2 OCP1, 3 LIN1, 4 COM1, 5 HIN1, 6 VCC1, 7 VB1, 8 HS1, 9 FO2, 10 OCP2, 11 LIN2, 12 COM2, 13 HIN2, 14 VCC2, 15 VB2, 16 HS2, 17 FO3, 18 OCP3, 19 LIN3, 20 COM3, 21 HIN3, 22 VCC3, 23 VB3, 24 HS3, 25 VBB, 26 W, 27 LS3, 29 V, 30 LS2, 32 U, 33 LS1

## SF28GTA
designator D?, comment SF28
DIODE GEN PURP 600V 2A DO15; Manufacturer: SMC; Manufacturer Part Number: SF28GTA; Reverse Recovery Time: 35ns; Supplier 1: Digi-Key; RoHS: No; Category: Rectifier Diodes; Stock 1: 29447; Pricing 1: 1=0/29000, 10=0/23900, 100=0/12690, 500=0/08348, 1000=0/05676 (USD); Mount: Through Hole; Case/Package: DO-15; Packaging: Tape and Reel; Max Reverse Voltage (DC): 600V; Average Rectified Current: 2A; ComponentLink1URL: http://www.smc-diodes.com/propdf/SF21G-SF28G%20N1641%20REV.C.pdf?src-supplier=Digi-Key; ComponentLink1Description: http://www.smc-diodes.com/propdf/SF21G-SF28G%20N1641%20REV.C.pdf?src-supplier=Digi-Key; Supplier Part Number 1: 1655-1582-1-ND
footprint DIOD-STAND
footprint Diode_Axial_Lead
pins: A, K

## SF56
designator D?
SUPER FAST RECTIFIER DIODES 5A,400V,35nS,1.25V,; Package: DO-201AD (DO-27)
footprint SF56
pins: A, K

## SK23D07VG5
designator SW?
Slide Switches SK-23D07-VG 5; Manufacturer: ITT C&K; Supplier 1: Digi-Key; Manufacturer Part Number: SK23D07VG5; RoHS: No; Category: Uncategorized; Pricing 1: 21600=0/33423 (USD); Package Quantity: 270; Series: SK, COMAX; ComponentLink1URL: http://www.mouser.com/ds/2/60/sk-965380.pdf?src-supplier=Mouser; ComponentLink1Description: http://www.mouser.com/ds/2/60/sk-965380.pdf?src-supplier=Mouser; ComponentLink2URL: https://www.ckswitches.com/media/1432/sk.pdf?src-supplier=Digi-Key; ComponentLink2Description: https://www.ckswitches.com/media/1432/sk.pdf?src-supplier=Digi-Key; Supplier Part Number 1: SK23D07VG5-ND
footprint SK23D07
part A pins: 0, 1, 2, 3, 4
part B pins: 5, 6, 7, 8 5

## SM5822
designator D?, comment SM5822 SMA
Rectifier Diode, Schottky, (SS34), 3A, 40V, Silicon, DO-214AC SMA
footprint SMA(DO-214AC)
pins: A, K

## SMA
designator J?
SMA Connector; MP: altium_native_batch; Value: *; Package: None; Availability: Unavailable; Price: None
footprint SMA-CONNECTOR
footprint SMA-CONNECTOR-R
footprint SMA_EM (SMA-J-P-H-ST-EM1 edge mounting)
pins: 1, 2, 3, 4, 5

## SMAJ30CA
designator D?
LITTELFUSE - SMAJ30CA - TVS DIODE, 400W, 30V, DO-214AC; Clamping Voltage: 48.4V; Polarity: Bidirectional; Peak Pulse Current: 8.3A; Test Current: 1mA; Reverse Breakdown Voltage: 33.3V; Number of Elements: 1; Leakage Current: 1uA; Element Configuration: Single; Power Line Protection: No; Max Power Dissipation: 3.3W; Max Breakdown Voltage: 36.8V; Supplier 1: Digi-Key; Manufacturer: Littelfuse; Manufacturer Part Number: SMAJ30CA; RoHS: Yes; Category: TVS Diodes; Stock 1: 5; Pricing 1: 1=0/43000, 10=0/32000, 100=0/19950, 500=0/13650, 1000=0/10500, 2000=0/09450 (USD); Mount: Surface Mount; Number of Pins: 2; Min Operating Temperature: -65°C; Max Operating Temperature: 150°C; Peak Pulse Power: 400W; Packaging: Tape and Reel; Reverse Standoff Voltage: 30V; Breakdown Voltage: 33.3V; Package Quantity: 5000; Max Surge Current: 8.3A; Min Breakdown Voltage: 33.3V; Operating Supply Voltage: 30V; Number of Channels: 1; Direction: Bidirectional; Termination: SMD/SMT; Max Reverse Leakage Current: 1uA; Number of Bidirectional Channels: 1; Resistor Type: Zener; Power Dissipation: 400W; Voltage Rating (DC): 30V; Length: 4.5mm; Width: 2.79mm; Height: 2.087mm; Radiation Hardening: No; RoHS Compliant: Yes; Lead Free: Lead Free; REACH SVHC: No SVHC; ComponentLink1URL: https://datasheet.ciiva.com/25624/0900766b810f4edb-25624835.pdf?src-supplier=RSComponents; ComponentLink1Description: https://datasheet.ciiva.com/25624/0900766b810f4edb-25624835.pdf?src-supplier=RSComponents; ComponentLink2URL: https://datasheet.ciiva.com/331/littelfuse-tvs-diode-smaj-datasheet-pdf-331093.pdf?src-supplier=Digi-Key; ComponentLink2Description: https://datasheet.ciiva.com/331/littelfuse-tvs-diode-smaj-datasheet-pdf-331093.pdf?src-supplier=Digi-Key; ComponentLink3URL: https://datasheet.ciiva.com/14162/smaj-eng-ds-14162037.pdf?src-supplier=Distrelec; ComponentLink3Description: https://datasheet.ciiva.com/14162/smaj-eng-ds-14162037.pdf?src-supplier=Distrelec; ComponentLink4URL: https://datasheet.ciiva.com/16487/littelfuse-tvs-diode-smaj-16487781.pdf?src-supplier=Future+Electronics; ComponentLink4Description: https://datasheet.ciiva.com/16487/littelfuse-tvs-diode-smaj-16487781.pdf?src-supplier=Future+Electronics; ComponentLink5URL: https://datasheet.ciiva.com/28473/607617-28473413.pdf?src-supplier=Element14; ComponentLink5Description: https://datasheet.ciiva.com/28473/607617-28473413.pdf?src-supplier=Element14; ComponentLink6URL: https://datasheet.ciiva.com/331/littelfuse-tvs-diode-smaj-datasheet-pdf-331094.pdf?src-supplier=Digi-Key; ComponentLink6Description: https://datasheet.ciiva.com/331/littelfuse-tvs-diode-smaj-datasheet-pdf-331094.pdf?src-supplier=Digi-Key; ComponentLink7URL: https://datasheet.ciiva.com/331/littelfuse-tvs-diode-smaj-datasheet-pdf-331095.pdf?src-supplier=Digi-Key; ComponentLink7Description: https://datasheet.ciiva.com/331/littelfuse-tvs-diode-smaj-datasheet-pdf-331095.pdf?src-supplier=Digi-Key; ComponentLink8URL: https://datasheet.ciiva.com/8062/littelfuse-tvs-diode-smaj-8062300.pdf?src-supplier=Element14; ComponentLink8Description: https://datasheet.ciiva.com/8062/littelfuse-tvs-diode-smaj-8062300.pdf?src-supplier=Element14; Supplier Part Number 1: SMAJ30CALFCT-ND
footprint SMAJ
pins: A, K

## SMAJ4755A-TP
designator D?, comment 755A
Diode Zener 43V 1W DO214AC; Manufacturer: MCC; Manufacturer Part Number: SMAJ4755A-TP; Element Configuration: Single; Forward Voltage: 1.2V; Max Reverse Current: 5uA; Test Current: 6mA; Voltage Tolerance: 5%; Supplier 1: Digi-Key; RoHS: Yes; Category: Zener Diodes; Pricing 1: 7500=0/10285 (USD); Mount: Surface Mount; Case/Package: SMA; Number of Pins: 2; Min Operating Temperature: -65°C; Max Operating Temperature: 150°C; Packaging: Tape and Reel; Zener Voltage: 43V; Power Dissipation: 1W; Working Voltage: 43V; Lead Free: Lead Free; RoHS Compliant: Yes; ComponentLink1URL: http://components.arrow.com/part/dataview/45996711S301624N2022?src-supplier=Arrow+Electronics; ComponentLink1Description: http://components.arrow.com/part/dataview/45996711S301624N2022?src-supplier=Arrow+Electronics; ComponentLink2URL: http://www.mccsemi.com/up_pdf/SMAJ4728A-SMAJ4764A(DO-214AC).pdf?src-supplier=Future+Electronics; ComponentLink2Description: http://www.mccsemi.com/up_pdf/SMAJ4728A-SMAJ4764A(DO-214AC).pdf?src-supplier=Future+Electronics; ComponentLink3URL: https://www.mccsemi.com/pdf/Products/SMAJ4733A-SMAJ4764A(DO-214AC).pdf?src-supplier=Digi-Key; ComponentLink3Description: https://www.mccsemi.com/pdf/Products/SMAJ4733A-SMAJ4764A(DO-214AC).pdf?src-supplier=Digi-Key; Supplier Part Number 1: SMAJ4755A-TP-ND
footprint SMA(DO-214AC)
pins: A, K

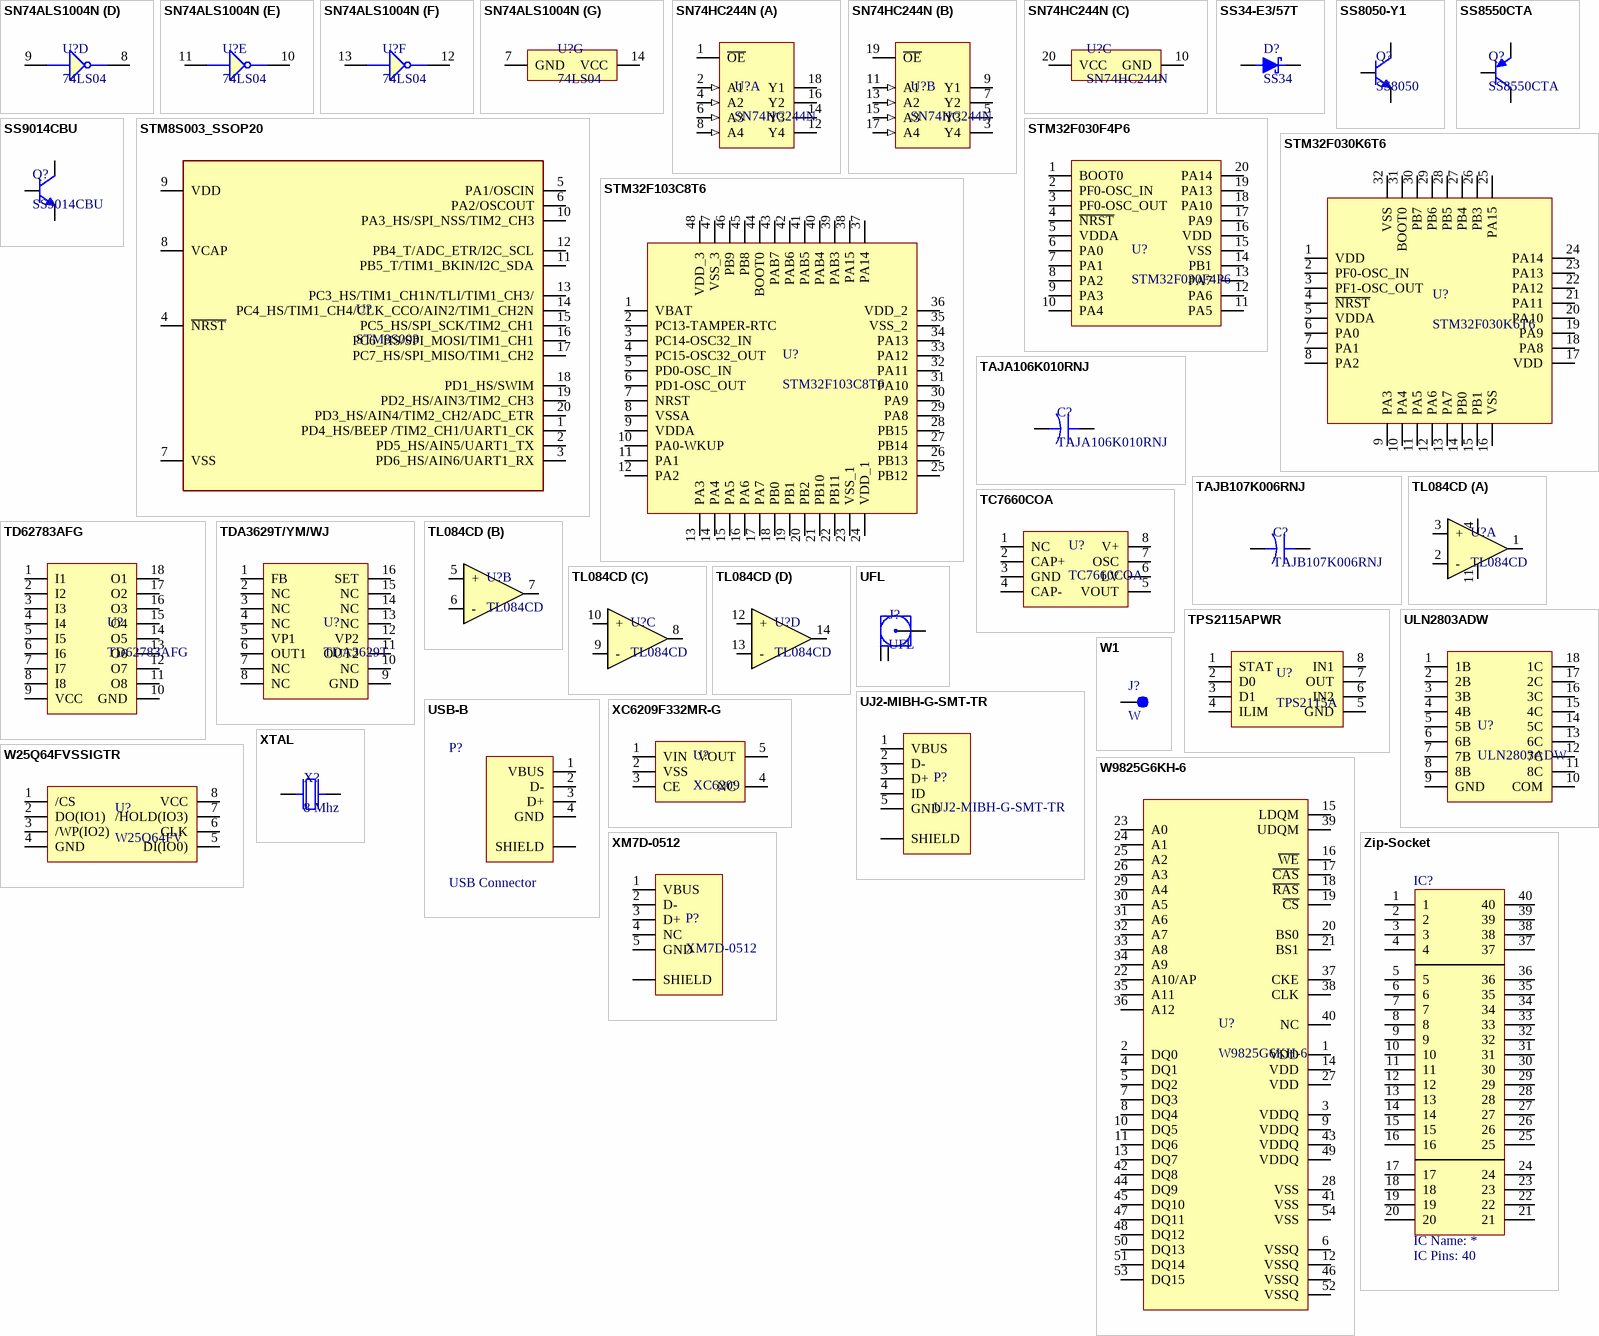
[diagram p3: symbols SN74ALS1004N to Zip-Socket]

## SN74ALS1004N
designator U?, comment 74LS04
Driver 6-CH Inverting Bipolar 14-Pin PDIP Driver 6-CH Inverting Bipolar 14-Pin PDIP 7404; Manufacturer: Texas Instruments; Manufacturer Part Number: SN74ALS1004N; Propagation Delay: 7ns; Output Current: 24mA; Number of Circuits: 6; Min Supply Voltage: 4.5V; Max Supply Voltage: 5.5V; Number of Inputs: 1; Operating Supply Voltage: 5V; High Level Output Current: -15mA; Logic Function: Buffer,Inverter; Schmitt Trigger Input: No; Supplier 1: Mouser; RoHS: Yes; Category: Logic Gates; Stock 1: 156; Pricing 1: 1=4/45000, 10=4/00000, 50=3/77000, 100=3/27000, 1000=2/78000, 10000=2/43000 (USD); Mount: Through Hole; Case/Package: PDIP; Number of Pins: 14; Min Operating Temperature: 0°C; Max Operating Temperature: 70°C; Packaging: Rail/Tube; Polarity: Inverting; Number of Gates: 6; Number of Channels: 6; Package Quantity: 25; Number of Outputs: 6; Low Level Output Current: 24mA; Number of Input Lines: 6; Number of Output Lines: 6; Turn-On Delay Time: 7ns; Number of Elements: 6; Series: 74ALS; Technology: BIPOLAR; Number of Bits: 6; Max Output Current: 24mA; Termination: Through Hole; Length: 19.3mm; Width: 6.35mm; Height: 4.57mm; Radiation Hardening: No; Lead Free: Lead Free; RoHS Compliant: Yes; Reach SVHC Compliant: Yes; ComponentLink1URL: https://datasheet.ciiva.com/6144/sn74as1004a-6144478.pdf?src-supplier=Farnell; ComponentLink1Description: https://datasheet.ciiva.com/6144/sn74as1004a-6144478.pdf?src-supplier=Farnell; ComponentLink2URL: https://datasheet.ciiva.com/7794/sn74as1004a-7794871.pdf?src-supplier=Element14; ComponentLink2Description: https://datasheet.ciiva.com/7794/sn74as1004a-7794871.pdf?src-supplier=Element14; ComponentLink3URL: https://datasheet.ciiva.com/14318/sdas074b-14318456.pdf?src-supplier=Avnet; ComponentLink3Description: https://datasheet.ciiva.com/14318/sdas074b-14318456.pdf?src-supplier=Avnet; Supplier Part Number 1: 595-SN74ALS1004N
footprint DIP-14
part A pins: 1, 2
part B pins: 3, 4
part C pins: 5, 6
part D pins: 8, 9
part E pins: 10, 11
part F pins: 12, 13
part G pins: 7 GND, 14 VCC

## SN74HC244N
designator U?
Buffer/Line Driver 8-CH Non-Inverting 3-ST CMOS 20-Pin PDIP Tube / IC BUFF/DVR TRI-ST DUAL 20SO; Manufacturer: Texas Instruments; Logic Function: Buffer,Inverting; Propagation Delay: 250ns; High Level Output Current: -7.8mA; Low Level Output Current: 7.8mA; Number of Elements: 2; Max Supply Voltage: 6V; Min Supply Voltage: 2V; Number of Outputs: 8; Number of Bits per Element: 4; Operating Supply Voltage: 5V; Turn-On Delay Time: 165ns; Quiescent Current: 8uA; Output Type: 3-STATE; Supplier 1: Mouser; Manufacturer Part Number: SN74HC244N; RoHS: Yes; Category: Buffers, Drivers and Transceivers; Stock 1: 488; Pricing 1: 1=0/82000, 10=0/71800, 50=0/71800, 100=0/54900, 260=0/51000, 1000=0/34700, 10000=0/34700 (USD); Mount: Through Hole; Case/Package: PDIP; Number of Pins: 20; Contact Plating: Gold; Min Operating Temperature: -40°C; Max Operating Temperature: 85°C; Polarity: Non-Inverting; Package Quantity: 20; Packaging: Rail/Tube; Number of Input Lines: 8; Number of Output Lines: 8; Number of Bits: 8; Number of Channels: 8; Number of Inputs: 8; Series: 74HC; Technology: CMOS; Number of Circuits: 8; Length: 24.33mm; Width: 6.35mm; Height: 4.57mm; Radiation Hardening: No; Lead Free: Lead Free; RoHS Compliant: Yes; REACH SVHC: No SVHC; ComponentLink1URL: https://datasheet.ciiva.com/1835/sn74hc244-1835072.pdf?src-supplier=Digi-Key; ComponentLink1Description: https://datasheet.ciiva.com/1835/sn74hc244-1835072.pdf?src-supplier=Digi-Key; ComponentLink2URL: https://datasheet.ciiva.com/26096/sn54hc244-26096624.pdf?src-supplier=Avnet+Europe; ComponentLink2Description: https://datasheet.ciiva.com/26096/sn54hc244-26096624.pdf?src-supplier=Avnet+Europe; ComponentLink3URL: https://datasheet.ciiva.com/30475/0900766b800a3ad3-30475024.pdf?src-supplier=RSComponents; ComponentLink3Description: https://datasheet.ciiva.com/30475/0900766b800a3ad3-30475024.pdf?src-supplier=RSComponents; ComponentLink4URL: https://datasheet.ciiva.com/15094/getdatasheetpartid-44243-15094235.pdf?src-supplier=Verical; ComponentLink4Description: https://datasheet.ciiva.com/15094/getdatasheetpartid-44243-15094235.pdf?src-supplier=Verical; ComponentLink5URL: https://datasheet.ciiva.com/41456/001016707-da-01-en-ic-b-dvr-sn74hc2-sn74hc244n-pdip-20-tid-41456855.pdf?src-supplier=Conrad; ComponentLink5Description: https://datasheet.ciiva.com/41456/001016707-da-01-en-ic-b-dvr-sn74hc2-sn74hc244n-pdip-20-tid-41456855.pdf?src-supplier=Conrad; Supplier Part Number 1: 595-SN74HC244N
footprint DIP-20
part A pins: 1 ~{OE}, 2 A1 (in), 4 A2 (in), 6 A3 (in), 8 A4 (in), 12 Y4, 14 Y3, 16 Y2, 18 Y1
part B pins: 3 Y4, 5 Y3, 7 Y2, 9 Y1, 11 A1 (in), 13 A2 (in), 15 A3 (in), 17 A4 (in), 19 ~{OE}
part C pins: 10 GND, 20 VCC

## SS34-E3/57T
designator D?, comment SS34
Rectifier Diode, Schottky, 1 Phase, 1 Element, 3A, 40V V(RRM), Silicon, DO-214AB; Manufacturer: Vishay Semiconductors; Manufacturer Part Number: SS34-E3/57T; Element Configuration: Single; Max Forward Surge Current (Ifsm): 100A; Max Reverse Current: 500uA; Forward Voltage: 500mV; Polarity: Standard; Supplier 1: Digi-Key; RoHS: Yes; Category: Rectifier Diodes; Stock 1: 25169; Pricing 1: 1=0.58000, 10=0.49500, 100=0.36990 (USD); Mount: Surface Mount; Case/Package: SMC; Number of Pins: 2; Contact Plating: Tin,Matte; Min Operating Temperature: -55°C; Max Operating Temperature: 125°C; Packaging: Tape and Reel; Package Quantity: 850; Series: -; Current Rating: 3A; Voltage Rating (DC): 40V; Max Repetitive Reverse Voltage (Vrrm): 40V; Forward Current: 3A; Output Current: 3A; Peak Non-Repetitive Surge Current: 100A; Average Rectified Current: 3A; Max Reverse Voltage (DC): 40V; Max Surge Current: 100A; Max Reverse Leakage Current: 500uA; Current: 3A; Voltage: 40V; Length: 7.11mm; Width: 6.22mm; Height: 2.417mm; Radiation Hardening: No; REACH SVHC: Unknown; Lead Free: Lead Free; ComponentLink1URL: https://datasheet.ciiva.com/4244/ss32-4244863.pdf?src-supplier=Arrow+Electronics; ComponentLink1Description: https://datasheet.ciiva.com/4244/ss32-4244863.pdf?src-supplier=Arrow+Electronics; ComponentLink2URL: https://datasheet.ciiva.com/15144/getdatasheetpartid-73598-15144471.pdf?src-supplier=Verical; ComponentLink2Description: https://datasheet.ciiva.com/15144/getdatasheetpartid-73598-15144471.pdf?src-supplier=Verical; ComponentLink3URL: https://datasheet.ciiva.com/17077/ss34-e3-57t-17077951.pdf?src-supplier=Allied+Electronics; ComponentLink3Description: https://datasheet.ciiva.com/17077/ss34-e3-57t-17077951.pdf?src-supplier=Allied+Electronics; ComponentLink4URL: https://datasheet.ciiva.com/26788/ss34-e3-57t-26788786.pdf?src-supplier=IIIC; ComponentLink4Description: https://datasheet.ciiva.com/26788/ss34-e3-57t-26788786.pdf?src-supplier=IIIC; ComponentLink5URL: https://datasheet.ciiva.com/26295/1697107-26295413.pdf?src-supplier=Element14; ComponentLink5Description: https://datasheet.ciiva.com/26295/1697107-26295413.pdf?src-supplier=Element14; Supplier Part Number 1: SS34-E3/57TGICT-ND
footprint SMC(DO-214AB)
pins: A, K

## SS8050-Y1
designator Q?, comment SS8050
NPN TRANSISTOR 1.5A 40V SOT-23
footprint SOT-23-3
pins: 1 B, 2 E, 3 C

## SS8550CTA
designator Q?
Trans GP BJT PNP 25V 1.5A 3-Pin TO-92 Ammo; Manufacturer: ON Semiconductor / Fairchild; Current Rating: -1.5A; Voltage Rating (DC): -25V; Transition Frequency: 200MHz; Element Configuration: Single; Max Frequency: 1MHz; Collector Base Voltage (VCBO): -40V; Emitter Base Voltage (VEBO): -6V; Collector Emitter Saturation Voltage: -280mV; Number of Elements: 1; Power Dissipation: 1W; hFE Min: 85; Supplier 1: Digi-Key; Manufacturer Part Number: SS8550CTA; RoHS: Yes; Category: BJTs; Stock 1: 3189; Pricing 1: 1=0/35000, 10=0/28900, 25=0/24240, 100=0/15350, 500=0/10096, 1000=0/06866 (USD); Mount: Through Hole; Case/Package: TO-92-3; Number of Pins: 3; Weight: 0.24g; Min Operating Temperature: -65°C; Max Operating Temperature: 150°C; Max Collector Current: 1.5A; Collector Emitter Breakdown Voltage: 25V; Gain Bandwidth Product: 200MHz; Polarity: PNP; Max Breakdown Voltage: 25V; Max Power Dissipation: 1W; Package Quantity: 2000; Packaging: Ammo Pack; Collector Emitter Voltage (VCEO): 25V; Frequency: 200MHz; Length: 5.2mm; Width: 4.19mm; Height: 5.33mm; Radiation Hardening: No; Lead Free: Lead Free; ComponentLink1URL: https://datasheet.ciiva.com/29571/ss8550-29571270.pdf?src-supplier=Digi-Key; ComponentLink1Description: https://datasheet.ciiva.com/29571/ss8550-29571270.pdf?src-supplier=Digi-Key; ComponentLink2URL: https://datasheet.ciiva.com/29571/ss8550-29571269.pdf?src-supplier=Digi-Key; ComponentLink2Description: https://datasheet.ciiva.com/29571/ss8550-29571269.pdf?src-supplier=Digi-Key; Supplier Part Number 1: SS8550CTACT-ND
footprint TO-92
pins: 1 E, 2 B, 3 C

## SS9014CBU
designator Q?
Bipolar (BJT) Single Transistor, NPN, 45 V, 270 MHz, 450 mW, 100 mA, 200; Manufacturer: ON Semiconductor; Max Power Dissipation: 450mW; Frequency: 270MHz; Number of Elements: 1; Collector Emitter Voltage (VCEO): 45V; hFE Min: 60; Max Collector Current: 100mA; Collector Base Voltage (VCBO): 50V; Emitter Base Voltage (VEBO): 5V; Collector Emitter Saturation Voltage: 140mV; Collector-emitter Voltage-Max: 300mV; Supplier 1: Digi-Key; Manufacturer Part Number: SS9014CBU; Category: BJTs; Mount: Through Hole; Case/Package: TO-92; Number of Pins: 3; Weight: 0.179g; Min Operating Temperature: -55°C; Max Operating Temperature: 150°C; Packaging: Bulk; Package Quantity: 1000; Transition Frequency: 270MHz; Polarity: NPN; Power Dissipation: 450mW; Collector Emitter Breakdown Voltage: 45V; Element Configuration: Single; Gain Bandwidth Product: 270MHz; Max Frequency: 270MHz; Voltage Rating (DC): 45V; Current Rating: 100mA; Series: -; Length: 4.58mm; Width: 3.86mm; Height: 4.58mm; Radiation Hardening: No; REACH SVHC: No SVHC; Lead Free: Lead Free; RoHS Compliant: Yes; ComponentLink1URL: https://datasheet.ciiva.com/11207/ss9014-11207537.pdf?src-supplier=Avnet; ComponentLink1Description: https://datasheet.ciiva.com/11207/ss9014-11207537.pdf?src-supplier=Avnet; ComponentLink2URL: https://datasheet.ciiva.com/46415/1863528-46415612.pdf?src-supplier=Element14; ComponentLink2Description: https://datasheet.ciiva.com/46415/1863528-46415612.pdf?src-supplier=Element14; ComponentLink3URL: https://datasheet.ciiva.com/978/ss9014-978974.pdf?src-supplier=Digi-Key; ComponentLink3Description: https://datasheet.ciiva.com/978/ss9014-978974.pdf?src-supplier=Digi-Key; ComponentLink4URL: http://datasheet.octopart.com/SS9014CBU-Fairchild-datasheet-4532.pdf?src-supplier=Newark; ComponentLink4Description: http://datasheet.octopart.com/SS9014CBU-Fairchild-datasheet-4532.pdf?src-supplier=Newark; ComponentLink5URL: http://datasheet.octopart.com/SS9014CBU-ON-Semiconductor-datasheet-85608206.pdf?src-supplier=ON+Semiconductor; ComponentLink5Description: http://datasheet.octopart.com/SS9014CBU-ON-Semiconductor-datasheet-85608206.pdf?src-supplier=ON+Semiconductor; ComponentLink6URL: http://datasheet.octopart.com/SS9014CBU-ON-Semiconductor-datasheet-86698737.pdf?src-supplier=ON+Semiconductor; ComponentLink6Description: http://datasheet.octopart.com/SS9014CBU-ON-Semiconductor-datasheet-86698737.pdf?src-supplier=ON+Semiconductor; ComponentLink7URL: http://datasheet.octopart.com/SS9014CBU-ON-Semiconductor-datasheet-102168068.pdf?src-supplier=ON+Semiconductor; ComponentLink7Description: http://datasheet.octopart.com/SS9014CBU-ON-Semiconductor-datasheet-102168068.pdf?src-supplier=ON+Semiconductor; ComponentLink8URL: http://datasheet.octopart.com/SS9014CBU-ON-Semiconductor-datasheet-86693094.pdf?src-supplier=Element14; ComponentLink8Description: http://datasheet.octopart.com/SS9014CBU-ON-Semiconductor-datasheet-86693094.pdf?src-supplier=Element14; ComponentLink9URL: http://sigma.octopart.com/8329026/technical_drawing/Fairchild-Semiconductor-SS9014CBU.pdf?src-supplier=Fairchild+Semiconductor; ComponentLink9Description: http://sigma.octopart.com/8329026/technical_drawing/Fairchild-Semiconductor-SS9014CBU.pdf?src-supplier=Fairchild+Semiconductor; ComponentLink10URL: http://datasheet.octopart.com/SS9014CBU-Fairchild-Semiconductor-datasheet-67476720.pdf?src-supplier=Newark; ComponentLink10Description: http://datasheet.octopart.com/SS9014CBU-Fairchild-Semiconductor-datasheet-67476720.pdf?src-supplier=Newark; ComponentLink11URL: http://datasheet.octopart.com/SS9014CBU-Fairchild-Semiconductor-datasheet-68342036.pdf?src-supplier=Farnell; ComponentLink11Description: http://datasheet.octopart.com/SS9014CBU-Fairchild-Semiconductor-datasheet-68342036.pdf?src-supplier=Farnell; ComponentLink12URL: http://datasheet.octopart.com/SS9014CBU-Fairchild-Semiconductor-datasheet-68481733.pdf?src-supplier=Newark; ComponentLink12Description: http://datasheet.octopart.com/SS9014CBU-Fairchild-Semiconductor-datasheet-68481733.pdf?src-supplier=Newark; ComponentLink13URL: http://datasheet.octopart.com/SS9014CBU-Fairchild-Semiconductor-datasheet-68661175.pdf?src-supplier=Farnell; ComponentLink13Description: http://datasheet.octopart.com/SS9014CBU-Fairchild-Semiconductor-datasheet-68661175.pdf?src-supplier=Farnell; ComponentLink14URL: http://datasheet.octopart.com/SS9014CBU-Fairchild-Semiconductor-datasheet-78857804.pdf?src-supplier=Farnell; ComponentLink14Description: http://datasheet.octopart.com/SS9014CBU-Fairchild-Semiconductor-datasheet-78857804.pdf?src-supplier=Farnell; ComponentLink15URL: http://datasheet.octopart.com/SS9014CBU-Fairchild-Semiconductor-datasheet-78861914.pdf?src-supplier=Newark; ComponentLink15Description: http://datasheet.octopart.com/SS9014CBU-Fairchild-Semiconductor-datasheet-78861914.pdf?src-supplier=Newark; Supplier Part Number 1: SS9014CBU-ND
footprint TO-92
pins: 1 E, 2 B, 3 C